# Altium schematic symbol library RES,1k5,5%,0.25W,Axial,Thru.Schlib: 1 symbol
Pins are listed as number, name and electrical type; pins without a type are passive.

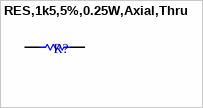
[diagram p0: symbol RES,1k5,5%,0.25W,Axial,Thru]

## RES,1k5,5%,0.25W,Axial,Thru
designator R?
pins: 1, 2